# Altium schematic symbol library lib.SchLib: 3 symbols
Pins are listed as number, name and electrical type; pins without a type are passive.

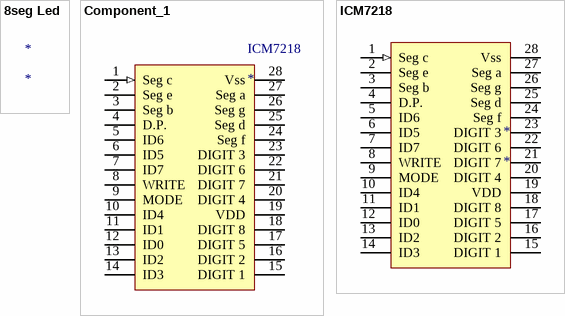
[diagram p0: symbols 8seg Led to ICM7218]

## 8seg Led
designator *

## Component_1
designator ICM7218
pins: 1 Seg c (in), 2 Seg e, 3 Seg b, 4 D.P., 5 ID6 "(HEXA/CODEB)", 6 ID5 "/DECODE", 7 ID7 "DATA COMING", 8 WRITE, 9 MODE, 10 ID4 "SHUTDOWN", 11 ID1, 12 ID0, 13 ID2, 14 ID3, 15 DIGIT 1, 16 DIGIT 2, 17 DIGIT 5, 18 DIGIT 8, 19 VDD, 20 DIGIT 4, 21 DIGIT 7 (power), 22 DIGIT 6, 23 DIGIT 3, 24 Seg f, 25 Seg d, 26 Seg g, 27 Seg a, 28 Vss

## ICM7218
designator *
pins: 1 Seg c (in), 2 Seg e, 3 Seg b, 4 D.P., 5 ID6 "(HEXA/CODEB)", 6 ID5 "/DECODE", 7 ID7 "DATA COMING", 8 WRITE, 9 MODE, 10 ID4 "SHUTDOWN", 11 ID1, 12 ID0, 13 ID2, 14 ID3, 15 DIGIT 1, 16 DIGIT 2, 17 DIGIT 5, 18 DIGIT 8, 19 VDD, 20 DIGIT 4, 21 DIGIT 7 (power), 22 DIGIT 6, 23 DIGIT 3, 24 Seg f, 25 Seg d, 26 Seg g, 27 Seg a, 28 Vss